# EAGLE library part LCD-NHD-0208AZ-3V3 (library CEDT_JANUARY_2015_v6)
New Haven Display - 8x2 Character 3 Volt LCD with Backlight
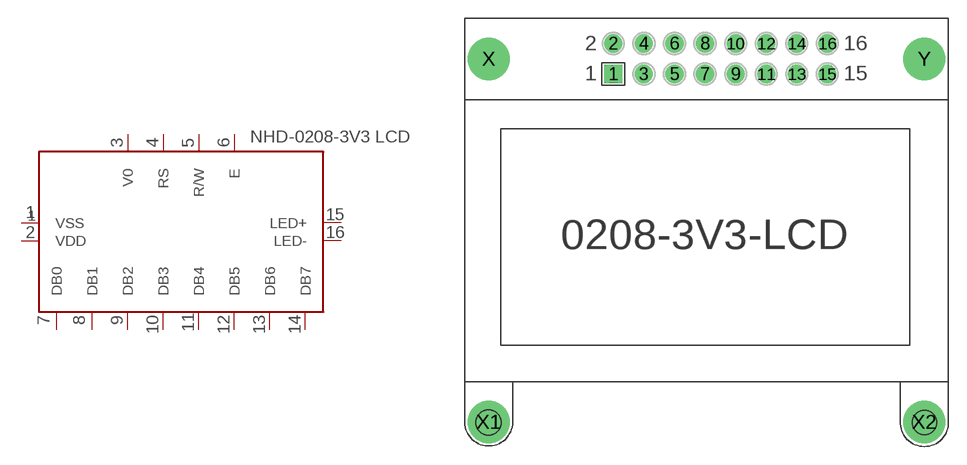
[diagram p27: symbol with the pads of LCD-NHD-0208-3V3; footprint LCD-NHD-0208-3V3]

Designator prefix -

## LCD-NHD-0208AZ-3V3  [LCD-NHD-0208-3V3]
1  VSS  pas
2  VDD  pas
3  V0  pas
4  RS  pas
5  R/W  pas
6  E  pas
7  DB0  pas
8  DB1  pas
9  DB2  pas
10  DB3  pas
11  DB4  pas
12  DB5  pas
13  DB6  pas
14  DB7  pas
15  LED+  pas
16  LED-  pas

## Footprint LCD-NHD-0208-3V3 (pad centres in mm)
drill 1 square: 1 12.36,25.55
drill 1: 2 12.36,28.09; 3 14.9,25.55; 4 14.9,28.09; 5 17.44,25.55; 6 17.44,28.09; 7 19.98,25.55; 8 19.98,28.09; 9 22.52,25.55; 10 22.52,28.09; 11 25.06,25.55; 12 25.06,28.09; 13 27.6,25.55; 14 27.6,28.09; 15 30.14,25.55; 16 30.14,28.09
drill 2 pad 3.5: X 2,26.8; X1 2,-3.362; X2 38.195,-3.362; Y 38.2,26.8